# Altium schematic symbol library GENERIC_P_MOSFET.SchLib: 1 symbol
Pins are listed as number, name and electrical type; pins without a type are passive.

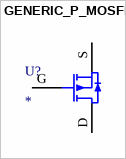
[diagram p0: symbol GENERIC_P_MOSFET]

## GENERIC_P_MOSFET
designator U?
pins: D, G, S